# Altium footprint library QFS-078-01-X-D-A.PcbLib: 2 footprints
Each footprint in its own frame and in the unit in brackets; x right, y up, seen from the top. Pads: shape width x height; smd on the part's side, far side on the other; paste and mask are expansions set on the pad; w line width, h text height; cw(c..) or ccw(c..) is an arc to the next point about the centre after c.
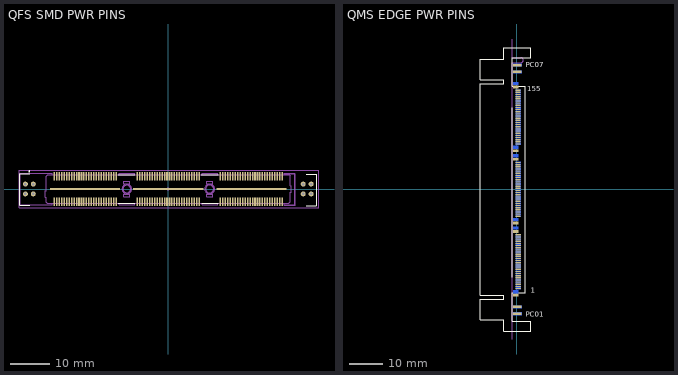
[diagram p0: the footprints below, top view; thin cyan lines are the x and y axes]

## QFS SMD PWR PINS [mm] "78 pos (156 pin) + 8 pwr pins"
height 7.06
pads (167):
  rect 0.4x2.15 smd mask+0: 1(-29.28,3.24) 2(-29.28,-3.24) 3(-28.645,3.24) 4(-28.645,-3.24) 5(-28.01,3.24) 6(-28.01,-3.24) 7(-27.375,3.24) 8(-27.375,-3.24) 9(-26.74,3.24) 10(-26.74,-3.24) 11(-26.105,3.24) 12(-26.105,-3.24) 13(-25.47,3.24) 14(-25.47,-3.24) 15(-24.835,3.24) 16(-24.835,-3.24) 17(-24.2,3.24) 18(-24.2,-3.24) 19(-23.565,3.24) 20(-23.565,-3.24) 21(-22.93,3.24) 22(-22.93,-3.24) 23(-22.295,3.24) 24(-22.295,-3.24) 25(-21.66,3.24) 26(-21.66,-3.24) 27(-21.025,3.24) 28(-21.025,-3.24) 29(-20.39,3.24) 30(-20.39,-3.24) 31(-19.755,3.24) 32(-19.755,-3.24) 33(-19.12,3.24) 34(-19.12,-3.24) 35(-18.485,3.24) 36(-18.485,-3.24) 37(-17.85,3.24) 38(-17.85,-3.24) 39(-17.215,3.24) 40(-17.215,-3.24) 41(-16.58,3.24) 42(-16.58,-3.24) 43(-15.945,3.24) 44(-15.945,-3.24) 45(-15.31,3.24) 46(-15.31,-3.24) 47(-14.675,3.24) 48(-14.675,-3.24) 49(-14.04,3.24) 50(-14.04,-3.24) 51(-13.405,3.24) 52(-13.405,-3.24) 53(-7.94,3.24) 54(-7.94,-3.24) 55(-7.305,3.24) 56(-7.305,-3.24) 57(-6.67,3.24) 58(-6.67,-3.24) 59(-6.035,3.24) 60(-6.035,-3.24) 61(-5.4,3.24) 62(-5.4,-3.24) 63(-4.765,3.24) 64(-4.765,-3.24) 65(-4.13,3.24) 66(-4.13,-3.24) 67(-3.495,3.24) 68(-3.495,-3.24) 69(-2.86,3.24) 70(-2.86,-3.24) 71(-2.225,3.24) 72(-2.225,-3.24) 73(-1.59,3.24) 74(-1.59,-3.24) 75(-0.955,3.24) 76(-0.955,-3.24) 77(-0.32,3.24) 78(-0.32,-3.24) 79(0.315,3.24) 80(0.315,-3.24) 81(0.95,3.24) 82(0.95,-3.24) 83(1.585,3.24) 84(1.585,-3.24) 85(2.22,3.24) 86(2.22,-3.24) 87(2.855,3.24) 88(2.855,-3.24) 89(3.49,3.24) 90(3.49,-3.24) 91(4.125,3.24) 92(4.125,-3.24) 93(4.76,3.24) 94(4.76,-3.24) 95(5.395,3.24) 96(5.395,-3.24) 97(6.03,3.24) 98(6.03,-3.24) 99(6.665,3.24) 100(6.665,-3.24) 101(7.3,3.24) 102(7.3,-3.24) 103(7.935,3.24) 104(7.935,-3.24) 105(13.4,3.24) 106(13.4,-3.24) 107(14.035,3.24) 108(14.035,-3.24) 109(14.67,3.24) 110(14.67,-3.24) 111(15.305,3.24) 112(15.305,-3.24) 113(15.94,3.24) 114(15.94,-3.24) 115(16.575,3.24) 116(16.575,-3.24) 117(17.21,3.24) 118(17.21,-3.24) 119(17.845,3.24) 120(17.845,-3.24) 121(18.48,3.24) 122(18.48,-3.24) 123(19.115,3.24) 124(19.115,-3.24) 125(19.75,3.24) 126(19.75,-3.24) 127(20.385,3.24) 128(20.385,-3.24) 129(21.02,3.24) 130(21.02,-3.24) 131(21.655,3.24) 132(21.655,-3.24) 133(22.29,3.24) 134(22.29,-3.24) 135(22.925,3.24) 136(22.925,-3.24) 137(23.56,3.24) 138(23.56,-3.24) 139(24.195,3.24) 140(24.195,-3.24) 141(24.83,3.24) 142(24.83,-3.24) 143(25.465,3.24) 144(25.465,-3.24) 145(26.1,3.24) 146(26.1,-3.24) 147(26.735,3.24) 148(26.735,-3.24) 149(27.37,3.24) 150(27.37,-3.24) 151(28.005,3.24) 152(28.005,-3.24) 153(28.64,3.24) 154(28.64,-3.24) 155(29.275,3.24) 156(29.275,-3.24)
  rect 18x0.5 smd mask+0: 157(-21.34,0) 158(0,0) 159(21.34,0)
  round 1.27 hole 0.635 mask+0: PC01(-36.703,1.27) PC02(-36.703,-1.27) PC03(-34.671,1.27) PC04(-34.684,-1.27) PC05(34.671,1.27) PC06(34.671,-1.27) PC07(36.703,1.27) PC08(36.703,-1.27)
Top Overlay:
  circle w0.25: c-35.71,4.521 r0.125
  lines w0.2: -38.16,3.937 -35.56,3.937 ; -38.135,3.92 -38.135,1.895 -38.135,-2.155 -38.135,-4.18 -35.535,-4.18 ; -12.8,-3.65 -8.55,-3.65 ; -12.8,3.65 -8.55,3.65 ; 8.5,3.65 12.8,3.65 ; 8.55,-3.65 12.8,-3.65 ; 35.449,3.835 38.049,3.835 ; 35.475,-4.267 38.075,-4.267 ; 38.151,-4.315 38.151,3.785
Mechanical 12:
  lines w0.001: -38.075,-4.05 -29.75,-4.05 -29.75,-3.65 -12.65,-3.65 -12.65,-4.05 -8.65,-4.05 -8.65,-3.65 8.7,-3.65 8.7,-4.05 12.7,-4.05 12.7,-3.65 29.75,-3.65 29.75,-4.05 32.5,-4.05 32.5,4.05 29.75,4.05 29.75,3.65 12.7,3.65 12.7,4.05 8.7,4.05 8.7,3.65 -8.65,3.65 -8.65,4.05 -12.65,4.05 -12.65,3.65 -29.75,3.65 -29.75,4.05 -38.075,4.05 -38.075,-4.05
Mechanical 13:
  circle w0.1: c10.65,0 r1.25
  circle w0.1: c10.65,0 r1
  circle w0.1: c-10.65,0 r1
  circle w0.1: c-10.65,0 r1.25
  lines w0.1: -29.75,-3.65 -29.75,-4.05 -38.049,-4.05 -38.049,4.05 -29.75,4.05 -29.75,3.65 ; -12.65,-3.65 -12.65,-4.05 -8.65,-4.05 -8.65,-3.65 ; -12.65,3.65 -12.65,4.05 -8.65,4.05 -8.65,3.65 ; 8.7,-3.65 8.7,-4.05 12.7,-4.05 12.7,-3.65 ; 8.7,3.65 8.7,4.05 12.7,4.05 12.7,3.65 ; 29.75,-4.14 29.75,-3.65 ; 29.75,3.65 29.75,4.05 ; 29.838,-4.14 32.588,-4.14 32.588,3.96 29.838,3.96 ; -31.65,-2.1 -31.65,-0.5 -31.35,-0.5 -31.35,3.3 -31,3.65 31.05,3.65 31.35,3.35 31.35,0.8 31.65,0.8 31.65,-0.8 31.35,-0.8 31.35,-3.3 31,-3.65 -31.05,-3.65 -31.35,-3.35 -31.35,-2.1 -31.65,-2.1 ; -11.4,-1.95 -9.85,-1.95 -9.85,-1.3 -11.4,-1.3 -11.4,-1.95 ; -11.4,1.3 -9.85,1.3 -9.85,1.95 -11.4,1.95 -11.4,1.3 ; 9.9,-1.95 11.45,-1.95 11.45,-1.3 9.9,-1.3 9.9,-1.95 ; 9.9,1.3 11.45,1.3 11.45,1.95 9.9,1.95 9.9,1.3
Mechanical 15:
  lines w0.05: -0.5,0 0.5,0 ; 0,-0.5 0,0.5 ; -38.354,-4.85 38.735,-4.85 38.735,4.8 -38.354,4.8 -38.354,-4.85

## QMS EDGE PWR PINS [mil] "78 pos (156 pin) + 8 pwr pins"
height 277.95
pads (176):
  rect 60x31 smd mask+0: 0(-14.03,-1229.45) 0(-14.03,-489.45) 0(-14.03,-389.45) 0(-14.03,350.55) 0(-14.03,450.55) 0(-14.03,1190.55)
  rect 60x31 smd far side mask+0: 0(-14.03,-1189.45) 0(-14.03,-449.45) 0(-14.03,-349.45) 0(-14.03,390.55) 0(-14.03,490.55) 0(-14.03,1230.55)
  rect 60x14 smd mask+0: 1(14.03,-1152.45) 3(14.03,-1127.45) 5(14.03,-1102.45) 7(14.03,-1077.45) 9(14.03,-1052.45) 11(14.03,-1027.45) 13(14.03,-1002.45) 15(14.03,-977.45) 17(14.03,-952.45) 19(14.03,-927.45) 21(14.03,-902.45) 23(14.03,-877.45) 25(14.03,-852.45) 27(14.03,-827.45) 29(14.03,-802.45) 31(14.03,-777.45) 33(14.03,-752.45) 35(14.03,-727.45) 37(14.03,-702.45) 39(14.03,-677.45) 41(14.03,-652.45) 43(14.03,-627.45) 45(14.03,-602.45) 47(14.03,-577.45) 49(14.03,-552.45) 51(14.03,-527.45) 53(12.97,-312.11) 55(12.97,-287.11) 57(12.97,-262.11) 59(12.97,-237.11) 61(12.97,-212.11) 63(12.97,-187.11) 65(12.97,-162.11) 67(12.97,-137.11) 69(12.97,-112.11) 71(12.97,-87.11) 73(12.97,-62.11) 75(12.97,-37.11) 77(12.97,-12.11) 79(12.97,12.89) 81(12.97,37.89) 83(12.97,62.89) 85(12.97,87.89) 87(12.97,112.89) 89(12.97,137.89) 91(12.97,162.89) 93(12.97,187.89) 95(12.97,212.89) 97(12.97,237.89) 99(12.97,262.89) 101(12.97,287.89) 103(12.97,312.89) 105(12.97,528.05) 107(12.97,553.05) 109(12.97,578.05) 111(12.97,603.05) 113(12.97,628.05) 115(12.97,653.05) 117(12.97,678.05) 119(12.97,703.05) 121(12.97,728.05) 123(12.97,753.05) 125(12.97,778.05) 127(12.97,803.05) 129(12.97,828.05) 131(12.97,853.05) 133(12.97,878.05) 135(12.97,903.05) 137(12.97,928.05) 139(12.97,953.05) 141(12.97,978.05) 143(12.97,1003.05) 145(12.97,1028.05) 147(12.97,1053.05) 149(12.97,1078.05) 151(12.97,1103.05) 153(12.97,1128.05) 155(12.97,1153.05)
  rect 60x14 smd far side mask+0: 2(14.03,-1152.45) 4(14.03,-1127.45) 6(14.03,-1102.45) 8(14.03,-1077.45) 10(14.03,-1052.45) 12(14.03,-1027.45) 14(14.03,-1002.45) 16(14.03,-977.45) 18(14.03,-952.45) 20(14.03,-927.45) 22(14.03,-902.45) 24(14.03,-877.45) 26(14.03,-852.45) 28(14.03,-827.45) 30(14.03,-802.45) 32(14.03,-777.45) 34(14.03,-752.45) 36(14.03,-727.45) 38(14.03,-702.45) 40(14.03,-677.45) 42(14.03,-652.45) 44(14.03,-627.45) 46(14.03,-602.45) 48(14.03,-577.45) 50(14.03,-552.45) 52(14.03,-527.45) 54(12.97,-312.11) 56(12.97,-287.11) 58(12.97,-262.11) 60(12.97,-237.11) 62(12.97,-212.11) 64(12.97,-187.11) 66(12.97,-162.11) 68(12.97,-137.11) 70(12.97,-112.11) 72(12.97,-87.11) 74(12.97,-62.11) 76(12.97,-37.11) 78(12.97,-12.11) 80(12.97,12.89) 82(12.97,37.89) 84(12.97,62.89) 86(12.97,87.89) 88(12.97,112.89) 90(12.97,137.89) 92(12.97,162.89) 94(12.97,187.89) 96(12.97,212.89) 98(12.97,237.89) 100(12.97,262.89) 102(12.97,287.89) 104(12.97,312.89) 106(12.97,528.05) 108(12.97,553.05) 110(12.97,578.05) 112(12.97,603.05) 114(12.97,628.05) 116(12.97,653.05) 118(12.97,678.05) 120(12.97,703.05) 122(12.97,728.05) 124(12.97,753.05) 126(12.97,778.05) 128(12.97,803.05) 130(12.97,828.05) 132(12.97,853.05) 134(12.97,878.05) 136(12.97,903.05) 138(12.97,928.05) 140(12.97,953.05) 142(12.97,978.05) 144(12.97,1003.05) 146(12.97,1028.05) 148(12.97,1053.05) 150(12.97,1078.05) 152(12.97,1103.05) 154(12.97,1128.05) 156(12.97,1153.05)
  rect 100x30 smd mask+0: PC01(4.53,-1444.45) PC03(4.53,-1365.55) PC05(4.03,1365.55) PC07(4.03,1444.45)
  rect 100x30 smd far side mask+0: PC02(4.53,-1444.45) PC04(4.53,-1365.55) PC06(4.03,1365.55) PC08(4.03,1444.45)
Top Overlay:
  lines w10: -428.58,-46.18 -428.58,1225.47 -152.99,1225.47 -152.99,1276.65 -428.58,1276.65 -428.58,1512.87 -152.99,1512.87 -152.99,1646.73 161.97,1646.73 161.97,1528.62 -54.57,1528.62 -54.57,1197.91 98.98,1197.91 98.98,-46.18 ; -428.58,44.37 -428.58,-1227.28 -152.99,-1227.28 -152.99,-1278.46 -428.58,-1278.46 -428.58,-1514.68 -152.99,-1514.68 -152.99,-1648.54 161.97,-1648.54 161.97,-1530.43 -54.57,-1530.43 -54.57,-1199.72 98.98,-1199.72 98.98,44.37 ; -54.57,-1018.62 -54.57,949.88
  text "PC07" at 100,1420 h60
  text "PC01" at 100,-1480 h60
  text "155" at 120,1140 h60
  text "1" at 160,-1200 h60
Mechanical 13:
  lines w10: -55.12,-1738.19 -55.12,-1164.52 -55.12,1472.44 -54.31,1473.25 43.31,1473.25 ccw(c43.31,1502.78) 43.31,1532.31 -55.12,1532.31 -55.12,1748.03